# EAGLE library part AD8032 (library Analog Devices)
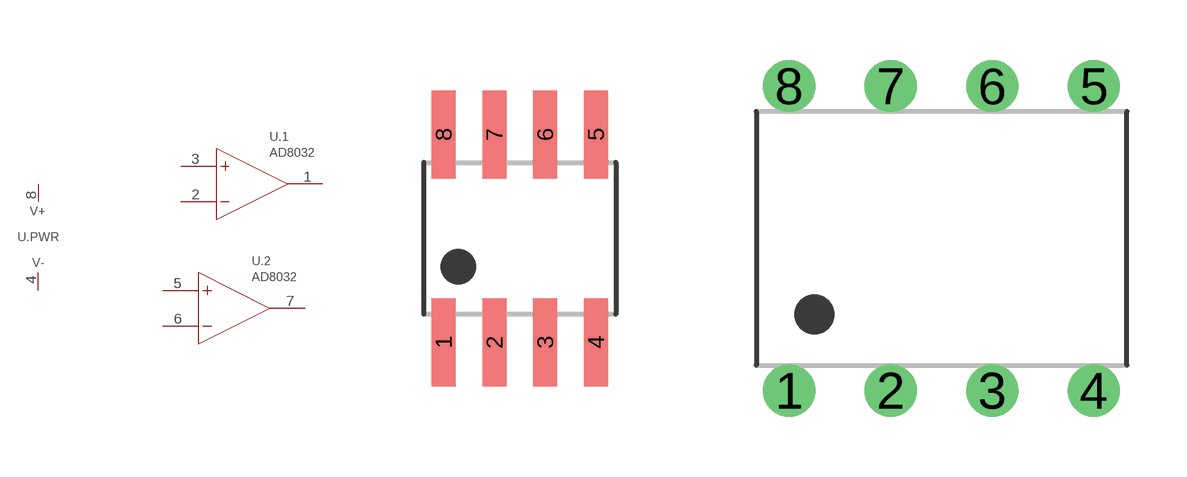
[diagram p45: symbol with the pads of SOIC8; footprints SOIC8, DIP8]

Designator prefix U; gates .1=OP_AMP .2=OP_AMP .PWR=OP_AMP_PWR

## AD8032ARZ  [SOIC8]
1  .1:OUT  out
2  .1:-IN  in
3  .1:+IN  in
4  .PWR:V-  pwr
5  .2:+IN  in
6  .2:-IN  in
7  .2:OUT  out
8  .PWR:V+  pwr

## AD8032ANZ  [DIP8]
Pads as for SOIC8

## Footprint SOIC8 (pad centres in mm)
smd 0.6 x 2.2: 1 -1.905,-2.6; 2 -0.635,-2.6; 3 0.635,-2.6; 4 1.905,-2.6; 5 1.905,2.6; 6 0.635,2.6; 7 -0.635,2.6; 8 -1.905,2.6

## Footprint DIP8 (pad centres in mm)
drill 0.8: 1 -3.81,-3.81; 2 -1.27,-3.81; 3 1.27,-3.81; 4 3.81,-3.81; 5 3.81,3.81; 6 1.27,3.81; 7 -1.27,3.81; 8 -3.81,3.81